# Altium integrated library My_Library_THT_Shottky_Diode.IntLib: 2 symbols
Pins are listed as number, name and electrical type; pins without a type are passive.

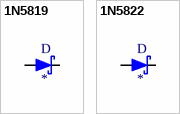
[diagram p0: symbols 1N5819 to 1N5822]

## 1N5819
designator D
Diode Schottky 40V 3A Through Hole; MP: 1N5822; MF: ON Semiconductor; Package: DO-201AD-201 Panjit; Value: *; SnapEDA_Link: https://www.snapeda.com/parts/1N5822/ON%20Semiconductor/view-part/1356736/?ref=snap; Price: None; Availability: Unavailable
footprint DO-41-8mm
pins: A, C

## 1N5822
designator D
Diode Schottky 40V 3A Through Hole; MP: 1N5822; MF: ON Semiconductor; Package: DO-201AD-201 Panjit; Value: *; SnapEDA_Link: https://www.snapeda.com/parts/1N5822/ON%20Semiconductor/view-part/1356736/?ref=snap; Price: None; Availability: Unavailable
footprint DO-201AD-20mm
pins: A, C